# Altium footprint library Footprints V4.3.0.PcbLib: 43 footprints (part 1 of 3)
Each footprint in its own frame and in the unit in brackets; x right, y up, seen from the top. Pads: shape width x height; smd on the part's side, far side on the other; paste and mask are expansions set on the pad; w line width, h text height; cw(c..) or ccw(c..) is an arc to the next point about the centre after c.
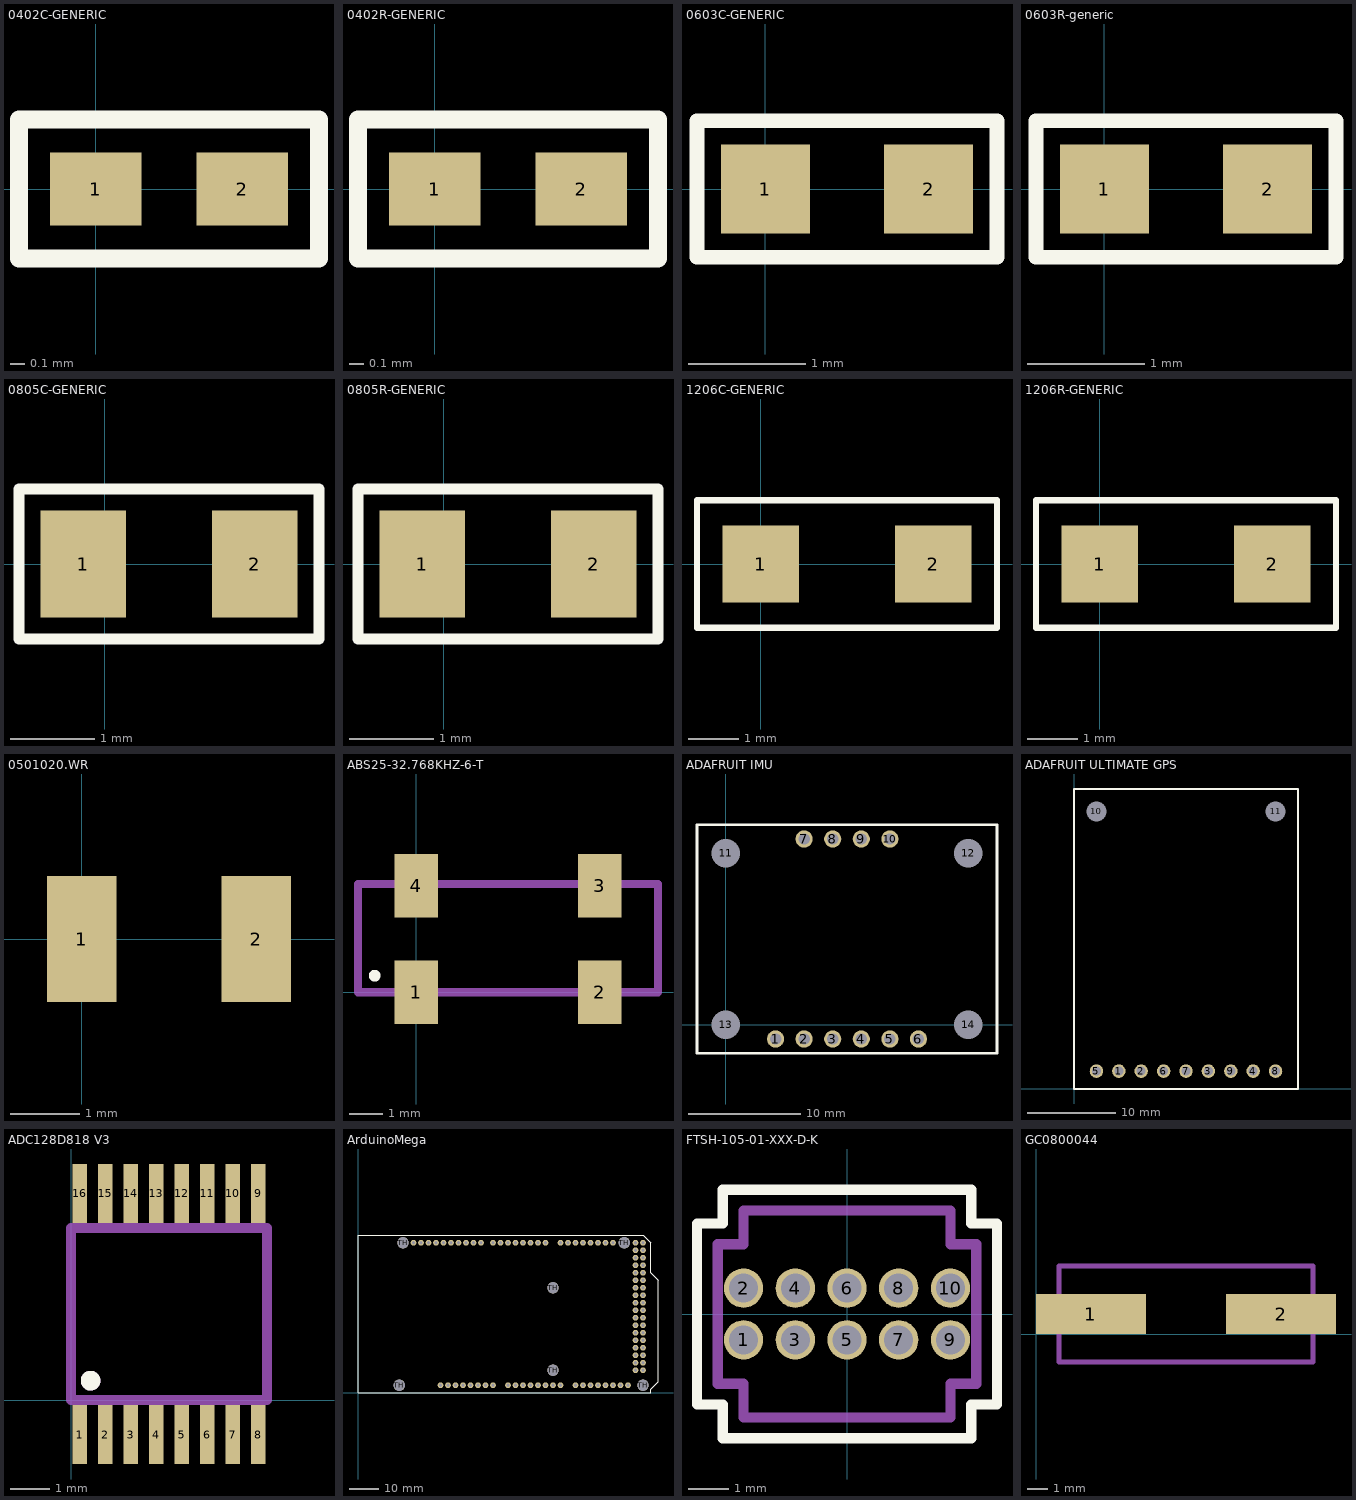
[diagram p0: the footprints below, top view; thin cyan lines are the x and y axes]

## 0402C-GENERIC [mil]
pads (2):
  rect 25x20 smd: 1(0,0) 2(40,0)
Top Overlay:
  lines w5: -21,-19 -21,19 61,19 61,-19 -21,-19

## 0402R-GENERIC [mil]
pads (2):
  rect 25x20 smd: 1(0,0) 2(40,0)
Top Overlay:
  lines w5: -21,-19 61,-19 61,19 -21,19 -21,-19
3D body: height 12, standoff 0, extent -4.5,-9.5 41,9.5
3D body: height 13, standoff 12, extent 3.5,-8 43.5,8
3D body: height 14, standoff 0, extent 37,-10 46,10
3D body: height 13, standoff 0, extent -5.5,-10 3.5,10

## 0603C-GENERIC [mil] "CAPACITOR 0603"
pads (2):
  rect 30x30 smd: 1(0,0) 2(55,0)
Top Overlay:
  lines w5: -23,-23 -23,23 78,23 78,-23 -23,-23
3D body: height 11, standoff 10, extent 7,-12 12,-2
3D body: height 11, standoff 10, extent 14.5,-12 19.5,-2
3D body: height 11, standoff 10, extent 22,-12 27,-2
3D body: height 11, standoff 10, extent 44.5,3 49.5,13
3D body: height 11, standoff 10, extent 37,3 42,13
3D body: height 11, standoff 10, extent 14.5,3 19.5,13
3D body: height 11, standoff 10, extent 7,3 12,13
3D body: height 11, standoff 10, extent 22,3 27,13
3D body: height 11, standoff 10, extent 29.5,3 34.5,13
3D body: height 11, standoff 10, extent 29.5,-12 34.5,-2
3D body: height 19, standoff 0, extent -4,-15 12,15
3D body: height 19, standoff 0, extent 43,-15 59,15
3D body: height 18, standoff 0, extent -3,-14 58,14
3D body: height 11, standoff 10, extent 44.5,-12 49.5,-2

## 0603R-generic [mil] "RESISTOR 0603"
pads (2):
  rect 30x30 smd: 1(0,0) 2(55,0)
Top Overlay:
  lines w5: -23,-23 -23,23 78,23 78,-23 -23,-23
3D body: height 16, standoff 15, extent 39.5,-10.5 44.5,-0.5
3D body: height 16, standoff 15, extent 32,-10.5 37,-0.5
3D body: height 16, standoff 15, extent 28.5,0.5 33.5,10.5
3D body: height 16, standoff 15, extent 21,0.5 26,10.5
3D body: height 16, standoff 15, extent 6,0.5 11,10.5
3D body: height 18, standoff 0, extent -3,-14 58,14
3D body: height 19, standoff 18, extent 5,-13 50,13
3D body: height 19, standoff 0, extent 50,-15 59,15
3D body: height 19, standoff 0, extent -4,-15 5,15
3D body: height 16, standoff 15, extent 13.5,0.5 18.5,10.5
3D body: height 16, standoff 15, extent 36,0.5 41,10.5
3D body: height 16, standoff 15, extent 43.5,0.5 48.5,10.5
3D body: height 16, standoff 15, extent 24.5,-10.5 29.5,-0.5
3D body: height 16, standoff 15, extent 17,-10.5 22,-0.5
3D body: height 16, standoff 15, extent 9.5,-10.5 14.5,-0.5

## 0805C-GENERIC [mil] "CAPACITOR 0805"
pads (2):
  rect 40x50 smd: 1(-10,0) 2(70,0)
Top Overlay:
  lines w5: -40,-35 -40,35 100,35 100,-35 -40,-35
3D body: height 26, standoff 0, extent 54,-25 70,25
3D body: height 26, standoff 0, extent -11,-25 5,25
3D body: height 25, standoff 0, extent -10,-24 69,24
3D body: height 23, standoff 22, extent 40.5,-15 48,0
3D body: height 23, standoff 22, extent 30.5,-15 38,0
3D body: height 23, standoff 22, extent 0.5,-15 8,0
3D body: height 23, standoff 22, extent 20.5,-15 28,0
3D body: height 23, standoff 22, extent 25,2.5 32.5,17.5
3D body: height 23, standoff 22, extent 15,2.5 22.5,17.5
3D body: height 23, standoff 22, extent 5,2.5 12.5,17.5
3D body: height 23, standoff 22, extent -5,2.5 2.5,17.5
3D body: height 23, standoff 22, extent 10.5,-15 18,0
3D body: height 23, standoff 22, extent 35,2.5 42.5,17.5
3D body: height 23, standoff 22, extent 45,2.5 52.5,17.5

## 0805R-GENERIC [mil] "RESISTOR 0805"
pads (2):
  rect 40x50 smd: 1(-10,0) 2(70,0)
Top Overlay:
  lines w5: -40,-35 -40,35 100,35 100,-35 -40,-35
3D body: height 27, standoff 26, extent 49.5,2 57,17
3D body: height 27, standoff 26, extent 39.5,2 47,17
3D body: height 25, standoff 0, extent -10,-24 69,24
3D body: height 26, standoff 0, extent -11,-25 5,25
3D body: height 26, standoff 25, extent 5,-22 54,22
3D body: height 26, standoff 0, extent 54,-25 70,25
3D body: height 27, standoff 26, extent 15,-15.5 22.5,-0.5
3D body: height 27, standoff 26, extent -0.5,2 7,17
3D body: height 27, standoff 26, extent 9.5,2 17,17
3D body: height 27, standoff 26, extent 19.5,2 27,17
3D body: height 27, standoff 26, extent 29.5,2 37,17
3D body: height 27, standoff 26, extent 25,-15.5 32.5,-0.5
3D body: height 27, standoff 26, extent 5,-15.5 12.5,-0.5
3D body: height 27, standoff 26, extent 35,-15.5 42.5,-0.5
3D body: height 27, standoff 26, extent 45,-15.5 52.5,-0.5

## 1206C-GENERIC [mil]
pads (2):
  rect 60x60 smd: 1(0,0) 2(135,0)
Top Overlay:
  lines w5: -50,-50 -50,50 185,50 185,-50 -50,-50
3D body: height 46, standoff 0, extent -8,-29 22,29
3D body: height 45, standoff 0, extent 20,-28 118,28
3D body: height 23, standoff 22, extent 84.5,-16 92,-1
3D body: height 23, standoff 22, extent 74.5,-16 82,-1
3D body: height 23, standoff 22, extent 44.5,-16 52,-1
3D body: height 23, standoff 22, extent 64.5,-16 72,-1
3D body: height 23, standoff 22, extent 69,1.5 76.5,16.5
3D body: height 23, standoff 22, extent 59,1.5 66.5,16.5
3D body: height 23, standoff 22, extent 49,1.5 56.5,16.5
3D body: height 23, standoff 22, extent 39,1.5 46.5,16.5
3D body: height 23, standoff 22, extent 54.5,-16 62,-1
3D body: height 23, standoff 22, extent 79,1.5 86.5,16.5
3D body: height 23, standoff 22, extent 89,1.5 96.5,16.5
3D body: height 46, standoff 0, extent 117,-29 147,29

## 1206R-GENERIC [mil]
pads (2):
  rect 60x60 smd: 1(0,0) 2(135,0)
Top Overlay:
  lines w5: -50,-50 185,-50 185,50 -50,50 -50,-50

## 0501020.WR [mm] "Fuse"
pads (2):
  rect 1x1.8 smd: 1(0,0) 2(2.5,0)

## ABS25-32.768KHZ-6-T [mm]
pads (4):
  rect 1.3x1.9 smd: 1(0,0) 2(5.5,0) 3(5.5,3.2) 4(0,3.2)
Top Overlay:
  circle w0.254: c-1.25,0.5 r0.05
Mechanical 1:
  lines w0.254: -1.75,0 7.25,0 7.25,3.25 -1.75,3.25 -1.75,0

## ADAFRUIT IMU [mil]
pads (14):
  round 60 hole 40.16: 1(175,-50) 2(275,-50) 3(375,-50) 4(475,-50) 5(575,-50) 6(675,-50) 7(275,650) 8(375,650) 9(475,650) 10(575,650)
  round 60 hole 100 unplated: 11(0,600) 12(850,600) 13(0,0) 14(850,0)
Top Overlay:
  lines w10: -100,-100 -100,700 950,700 950,-100 -100,-100

## ADAFRUIT ULTIMATE GPS [mil]
pads (11):
  round 60 hole 40.16: 1(200,80) 2(300,80) 3(600,80) 4(800,80) 5(100,80) 6(400,80) 7(500,80) 8(900,80) 9(700,80)
  round 60 hole 90 unplated: 10(100,1240) 11(900,1240)
Top Overlay:
  lines w10: 0,0 0,1340 960,1340 990,1340 1000,1340 1000,0 0,0

## ADC128D818 V3 [mm]
pads (16):
  rect 0.37x1.5 smd mask+0.076: 1(0.225,-0.877) 2(0.875,-0.877) 3(1.525,-0.877) 4(2.175,-0.877) 5(2.825,-0.877) 6(3.475,-0.877) 7(4.125,-0.877) 8(4.775,-0.877) 9(4.775,5.277) 10(4.125,5.277) 11(3.475,5.277) 12(2.825,5.277) 13(2.175,5.277) 14(1.525,5.277) 15(0.875,5.277) 16(0.225,5.277)
Top Overlay:
  circle w0.254: c0.5,0.5 r0.125
Mechanical 1:
  circle w0.254: c0.5,0.5 r0.125
  lines w0.254: 0,0 0,4.4 5,4.4 5,0 0,0

## ArduinoMega [mil] "Arduino Mega Footprint"
pads (92):
  round 78.75 hole 45: 3.3V(1400,100) 5V(1500,100) 5VOUT(3700,2000) 5VOUT(3800,2000) A0(2000,100) A1(2100,100) A2(2200,100) A3(2300,100) A4(2400,100) A5(2500,100) A6(2600,100) A7(2700,100) A8(2900,100) A9(3000,100) A10(3100,100) A11(3200,100) A12(3300,100) A13(3400,100) A14(3500,100) A15(3600,100) AREF(940,2000) DIO22(3700,1900) DIO23(3800,1900) DIO24(3700,1800) DIO25(3800,1800) DIO26(3700,1700) DIO27(3800,1700) DIO28(3700,1600) DIO29(3800,1600) DIO30(3700,1500) DIO31(3800,1500) DIO32(3700,1400) DIO33(3800,1400) DIO34(3700,1300) DIO35(3800,1300) DIO36(3700,1200) DIO37(3800,1200) DIO38(3700,1100) DIO39(3800,1100) DIO40(3700,1000) DIO41(3800,1000) DIO42(3700,900) DIO43(3800,900) DIO44(3700,800) DIO45(3800,800) DIO46(3700,700) DIO47(3800,700) DIO48(3700,600) DIO49(3800,600) DIO50(3700,500) DIO51(3800,500) DIO52(3700,400) DIO53(3800,400) GND(1040,2000) GND(1600,100) GND(1700,100) GND(3700,300) GND(3800,300) IOREF(1200,100) nc(1100,100) PWM0(2300,2000) PWM1(2200,2000) PWM2(2100,2000) PWM3(2000,2000) PWM4(1900,2000) PWM5(1800,2000) PWM6(1640,2000) PWM7(1540,2000) PWM8(1440,2000) PWM9(1340,2000) PWM10(1240,2000) PWM11(1140,2000) RESET(1300,100) RX0(2500,2000) RX1(3200,2000) RX2(3000,2000) RX3(2800,2000) SCL(740,2000) SCL(3400,2000) SDA(840,2000) SDA(3300,2000) TX0(2400,2000) TX1(3100,2000) TX2(2900,2000) TX3(2700,2000) VIN(1800,100)
  round 150 hole 150 unplated paste+0 mask+0: TH(550,100) TH(600,2000) TH(2600,300) TH(2600,1400) TH(3550,2000) TH(3800,100)
Top Overlay:
  lines w10: 0,0 0,2100 3800,2100 3900,2000 3900,1600 4000,1500 4000,150 3900,50 3900,0 0,0
3D body "ArduinoMega.SLDPRT": height 425, standoff -85, extent -250.98,-0.64 3999.02,2102.36

## FTSH-105-01-XXX-D-K [mil]
pads (10):
  round 38 hole 28 mask+3: 1(-100,-25) 2(-100,25) 3(-50,-25) 4(-50,25) 5(0,-25) 6(0,25) 7(50,-25) 8(50,25) 9(100,-25) 10(100,25)
Top Overlay:
  lines w10: -145,-87.5 -145,87.5 -120,87.5 -120,120 120,120 120,87.5 145,87.5 145,-87.5 120,-87.5 120,-120 -120,-120 -120,-87.5 -145,-87.5
Mechanical 1:
  lines w10: -125,-67.5 -125,67.5 -100,67.5 -100,100 100,100 100,67.5 125,67.5 125,-67.5 100,-67.5 100,-100 -100,-100 -100,-67.5 -125,-67.5
  text "J1" at -19.57,-20 h30

## GC0800044 [mm]
pads (2):
  rect 5.5x2 smd: 1(2.75,1) 2(12.25,1)
Mechanical 1:
  lines w0.254: 1.15,-1.4 1.15,3.4 13.85,3.4 13.85,-1.4 1.15,-1.4